# Altium footprint library Кнопки.PcbLib: 23 footprints (part 2 of 2)
Each footprint in its own frame and in the unit in brackets; x right, y up, seen from the top. Pads: shape width x height; smd on the part's side, far side on the other; paste and mask are expansions set on the pad; w line width, h text height; cw(c..) or ccw(c..) is an arc to the next point about the centre after c.
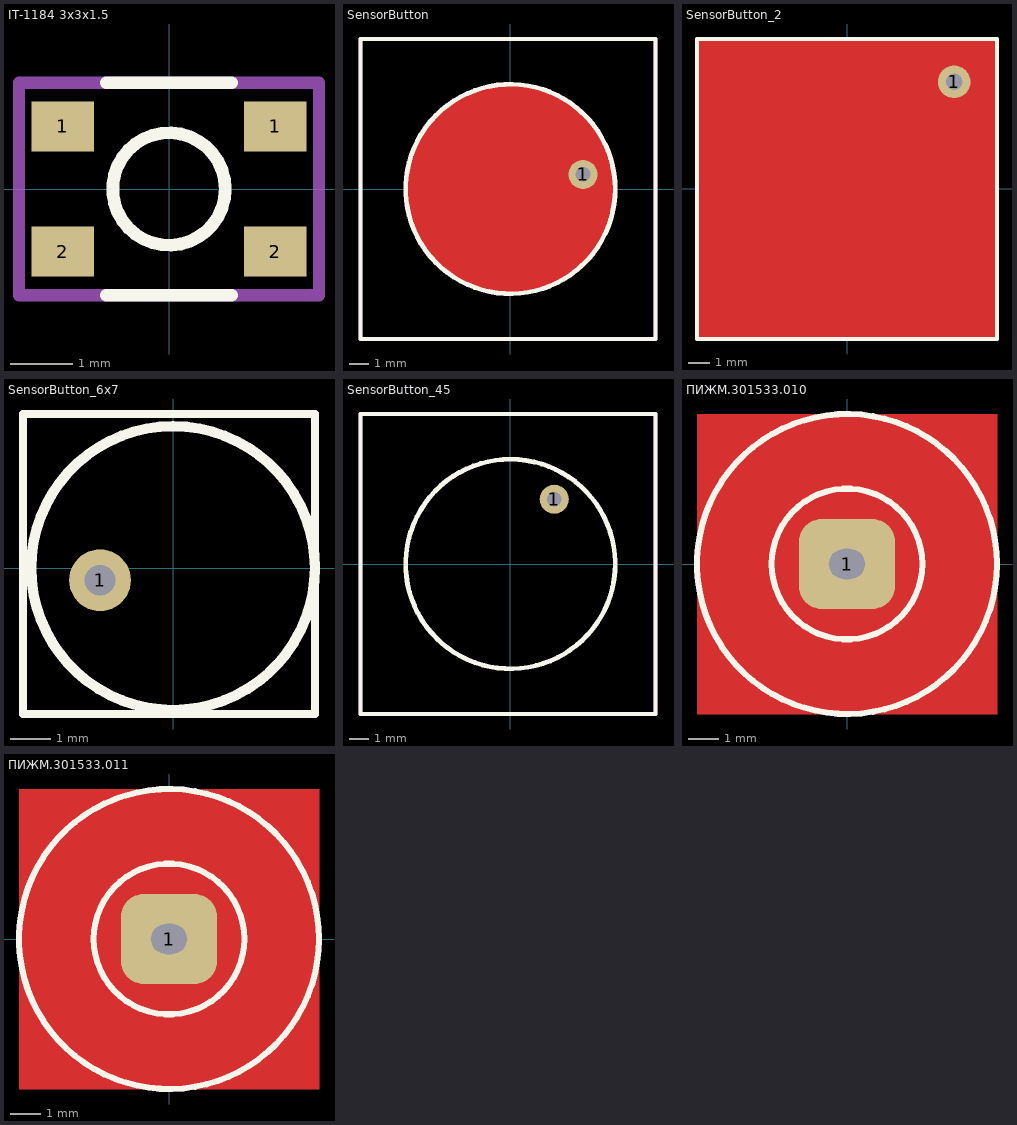
[diagram p1: the footprints below, top view; thin cyan lines are the x and y axes]

## IT-1184 3x3x1.5 [mm]
pads (4):
  rect 1x0.8 smd: 1(-1.7,1) 1(1.7,1) 2(-1.7,-1) 2(1.7,-1)
Top Overlay:
  circle w0.203: c0,0 r0.9
  lines w0.2: -1,-1.7 1,-1.7 ; -1,1.7 1,1.7
Top Assy:
  lines w0.2: -2.4,-1.7 2.4,-1.7 2.4,1.7 -2.4,1.7 -2.4,-1.7
  text ".Designator" at -2.2,-0.3 h1.52
3D body "IT-1184.stp": height 1.5, standoff 0, extent -2,-1.675 2,1.675

## SensorButton [mil]
pads (1):
  round 60 hole 30: 1(150,30)
Top Layer:
  region: 0,-215.14 -14.1,-215.14 -42.06,-211.45 -69.3,-204.16 -95.36,-193.36 -119.78,-179.26 -142.15,-162.09 -162.09,-142.15 -179.26,-119.78 -193.36,-95.36 -204.16,-69.3 -211.45,-42.06 -215.14,-14.1 -215.14,0 -215.14,14.1 -211.45,42.06 -204.16,69.3 -193.36,95.36 -179.26,119.78 -162.09,142.15 -142.15,162.09 -119.78,179.26 -95.36,193.36 -69.3,204.16 -42.06,211.45 -14.1,215.14 0,215.14 14.1,215.14 42.06,211.45 69.3,204.16 95.36,193.36 119.78,179.26 142.15,162.09 162.09,142.15 179.26,119.78 193.36,95.36 204.16,69.3 211.45,42.06 215.14,14.1 215.14,0 215.14,-14.1 211.45,-42.06 204.16,-69.3 193.36,-95.36 179.26,-119.78 162.09,-142.15 142.15,-162.09 119.78,-179.26 95.36,-193.36 69.3,-204.16 42.06,-211.45 14.1,-215.14
Top Overlay:
  circle w10: c0,0 r216.54
  lines w7.87: -310,-310 -310,310 300,310 300,-310 -310,-310
Top Assy:
  lines w7.87: -310,-310 -310,310 300,310 300,-310 -310,-310
  text ".Designator" at -120,-20 h60
3D body "Пружина 3.stp": height 760.22, standoff -31.5, extent -295.61,-305.6 305.34,304.92

## SensorButton_2 [mil]
pads (1):
  round 60 hole 30: 1(196.85,196.85)
Top Layer:
  region: -275.59,-275.59 275.59,-275.59 275.59,275.59 -275.59,275.59
Top Overlay:
  lines w7.87: -275.59,-275.59 -275.59,275.59 275.59,275.59 275.59,-275.59 -275.59,-275.59
Top Assy:
  lines w7.87: -275.59,-275.59 -275.59,275.59 275.59,275.59 275.59,-275.59 -275.59,-275.59
  text ".Designator" at -120,-20 h60

## SensorButton_6x7 [mil]
pads (1):
  round 60 hole 30: 1(-70.87,-11.81)
Top Overlay:
  circle w10: c0,0 r137.8
  lines w7.87: -145.67,-141.73 137.8,-141.73 137.8,149.61 -145.67,149.61 -145.67,-141.73
Top Assy:
  lines w7.87: -145.67,-141.73 137.8,-141.73 137.8,149.61 -145.67,149.61 -145.67,-141.73
  text ".Designator" at -120,-20 h60
3D body "Кнопка пружина 6х7.stp": height 228.34, standoff -118.11, extent -143.6,-139.26 135.24,146.88

## SensorButton_45 [mil]
pads (1):
  round 60 hole 30: 1(90.55,133.86)
Top Overlay:
  lines w7.87: -310,-310 -310,310 300,310 300,-310 -310,-310
  lines w10: 216.5,4.09 ccw(c0,0) 216.54,0
Top Assy:
  lines w7.87: -310,-310 -310,310 300,310 300,-310 -310,-310
  text ".Designator" at -120,-20 h60
3D body "пружина под углом.stp": height 760.18, standoff -31.55, extent -300.77,-290.09 305.89,305.07

## ПИЖМ.301533.010 [mm]
pads (1):
  rrect50% 3.2x3 hole 1 slot 1.2 at 0 deg: 1(0,0)
Top Layer:
  pour cut-out: 5,5 -5,5 -5,-5 5,-5
Top Overlay:
  circle w0.203: c0,0 r2.511
  circle w0.203: c0,0 r5
Top Assy:
  circle w0.203: c0,0 r5
  text ".Designator" at -3.048,-0.508 h1.52
3D body "ПИЖМ.301533.010.stp": height 10.76, standoff -2.3, extent -4.747,-4.75 4.747,4.75

## ПИЖМ.301533.011 [mm]
pads (1):
  rrect50% 3.2x3 hole 1 slot 1.2 at 0 deg: 1(0,0)
Top Layer:
  pour cut-out: 5,5 -5,5 -5,-5 5,-5
Top Overlay:
  circle w0.203: c0,0 r2.511
  circle w0.203: c0,0 r5
Top Assy:
  circle w0.203: c0,0 r5
  text ".Designator" at -3.048,-0.508 h1.52
3D body "ПИЖМ.301533.011.stp": height 16.06, standoff -3.1, extent -4.747,-4.75 4.747,4.75